# EAGLE library part CONECTOR10LEDS (library Kilomux)
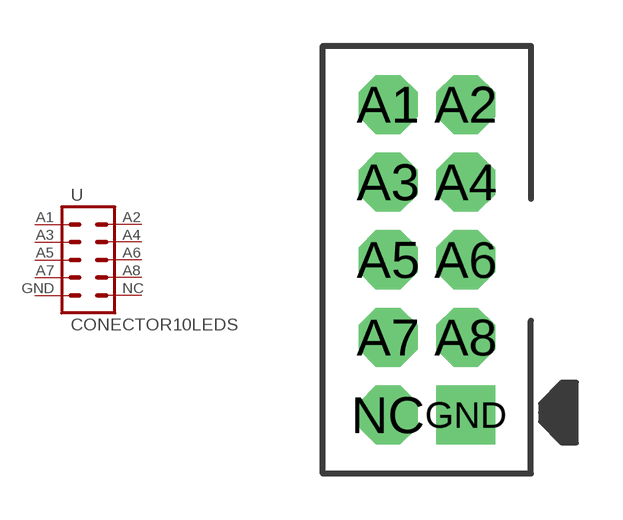
[diagram p6: symbol with the pads of HEADER-2X5-MALE-LEDS; footprint HEADER-2X5-MALE-LEDS]

Designator prefix -

## CONECTOR10LEDS  [HEADER-2X5-MALE-LEDS]
A1  POS1  pas
A2  POS2  pas
A3  POS3  pas
A4  POS4  pas
A5  POS5  pas
A6  POS6  pas
A7  POS7  pas
A8  POS8  pas
GND  GND  pas
NC  NC  pas

## Footprint HEADER-2X5-MALE-LEDS (pad centres in mm)
drill 1 pad 1.93 octagon: A1 -1.27,5.08; A2 1.27,5.08; A3 -1.27,2.54; A4 1.27,2.54; A5 -1.27,0; A6 1.27,0; A7 -1.27,-2.54; A8 1.27,-2.54; NC -1.27,-5.08
drill 1 pad 1.93 square: GND 1.27,-5.08